# EAGLE library part 50PIN_0.1INCH (library ARVP)
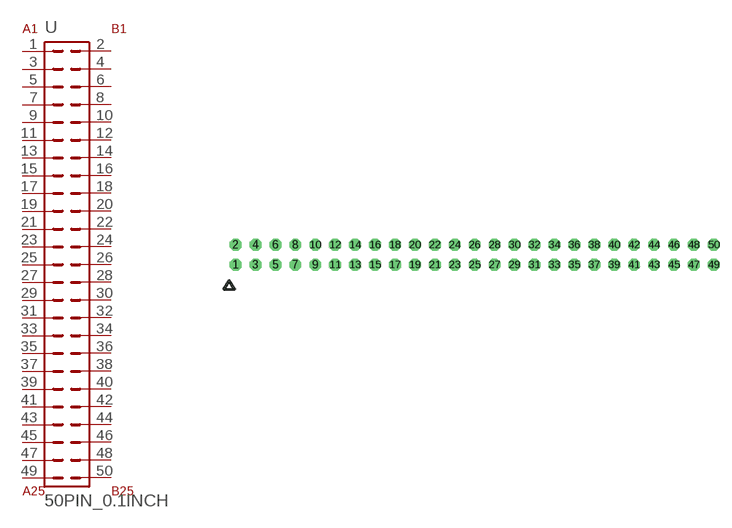
[diagram p17: symbol with the pads of 50PIN_0.1INCH; footprint 50PIN_0.1INCH]

Designator prefix -

## 50PIN_0.1INCH  [50PIN_0.1INCH]
1  A1  pas
2  B1  pas
3  A2  pas
4  B2  pas
5  A3  pas
6  B3  pas
7  A4  pas
8  B4  pas
9  A5  pas
10  B5  pas
11  A6  pas
12  B6  pas
13  A7  pas
14  B7  pas
15  A8  pas
16  B8  pas
17  A9  pas
18  B9  pas
19  A10  pas
20  B10  pas
21  A11  pas
22  B11  pas
23  A12  pas
24  B12  pas
25  A13  pas
26  B13  pas
27  A14  pas
28  B14  pas
29  A15  pas
30  B15  pas
31  A16  pas
32  B16  pas
33  A17  pas
34  B17  pas
35  A18  pas
36  B18  pas
37  A19  pas
38  B19  pas
39  A20  pas
40  B20  pas
41  A21  pas
42  B21  pas
43  A22  pas
44  B22  pas
45  A23  pas
46  B23  pas
47  A24  pas
48  B24  pas
49  A25  pas
50  B25  pas

## Footprint 50PIN_0.1INCH (pad centres in mm)
drill 1 octagon: 1 -30.48,-1.27; 2 -30.48,1.27; 3 -27.94,-1.27; 4 -27.94,1.27; 5 -25.4,-1.27; 6 -25.4,1.27; 7 -22.86,-1.27; 8 -22.86,1.27; 9 -20.32,-1.27; 10 -20.32,1.27; 11 -17.78,-1.27; 12 -17.78,1.27; 13 -15.24,-1.27; 14 -15.24,1.27; 15 -12.7,-1.27; 16 -12.7,1.27; 17 -10.16,-1.27; 18 -10.16,1.27; 19 -7.62,-1.27; 20 -7.62,1.27; 21 -5.08,-1.27; 22 -5.08,1.27; 23 -2.54,-1.27; 24 -2.54,1.27; 25 0,-1.27; 26 0,1.27; 27 2.54,-1.27; 28 2.54,1.27; 29 5.08,-1.27; 30 5.08,1.27; 31 7.62,-1.27; 32 7.62,1.27; 33 10.16,-1.27; 34 10.16,1.27; 35 12.7,-1.27; 36 12.7,1.27; 37 15.24,-1.27; 38 15.24,1.27; 39 17.78,-1.27; 40 17.78,1.27; 41 20.32,-1.27; 42 20.32,1.27; 43 22.86,-1.27; 44 22.86,1.27; 45 25.4,-1.27; 46 25.4,1.27; 47 27.94,-1.27; 48 27.94,1.27; 49 30.48,-1.27; 50 30.48,1.27